# EAGLE library part KTD2061EUAC (library KTD2061EUAC)
36-Channel RGB LED Drivers with I2C Control Source: Datasheet <https://g.componentsearchengine.com/Datasheets/0/14955773.pdf>
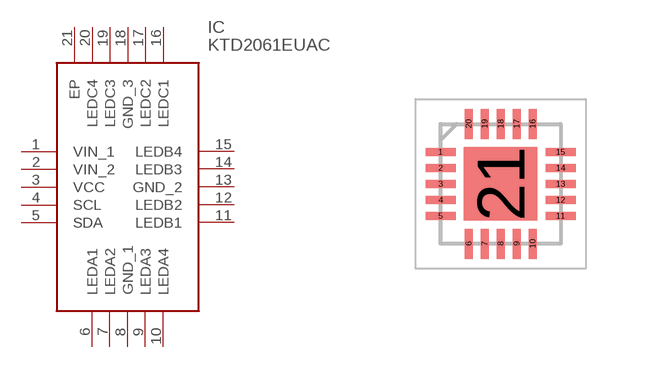
[diagram p0: symbol with the pads of QFN40P300X300X60-21N; footprint QFN40P300X300X60-21N]

Designator prefix IC

## KTD2061EUAC (Description: 36-Channel RGB LED Drivers with I2C Control; Height: 0.6mm; Manufacturer_Name: Kinetic Technologies; Manufacturer_Part_Number: KTD2061EUAC)  [QFN40P300X300X60-21N]
1  VIN_1
2  VIN_2
3  VCC
4  SCL
5  SDA
6  LEDA1
7  LEDA2
8  GND_1
9  LEDA3
10  LEDA4
11  LEDB1
12  LEDB2
13  GND_2
14  LEDB3
15  LEDB4
16  LEDC1
17  LEDC2
18  GND_3
19  LEDC3
20  LEDC4
21  EP

## Footprint QFN40P300X300X60-21N (pad centres in mm)
UQFN33-20 (3.00mm x 3.00mm x 0.55mm)
smd 0.75 x 0.2: 1 -1.5,0.8; 2 -1.5,0.4; 3 -1.5,0; 4 -1.5,-0.4; 5 -1.5,-0.8; 11 1.5,-0.8; 12 1.5,-0.4; 13 1.5,0; 14 1.5,0.4; 15 1.5,0.8
smd 0.2 x 0.75: 6 -0.8,-1.5; 7 -0.4,-1.5; 8 0,-1.5; 9 0.4,-1.5; 10 0.8,-1.5; 16 0.8,1.5; 17 0.4,1.5; 18 0,1.5; 19 -0.4,1.5; 20 -0.8,1.5
smd 1.83 x 1.83: 21 0,0